# Altium footprint library FPC 10.PcbLib: 1 footprints
Each footprint in its own frame and in the unit in brackets; x right, y up, seen from the top. Pads: shape width x height; smd on the part's side, far side on the other; paste and mask are expansions set on the pad; w line width, h text height; cw(c..) or ccw(c..) is an arc to the next point about the centre after c.
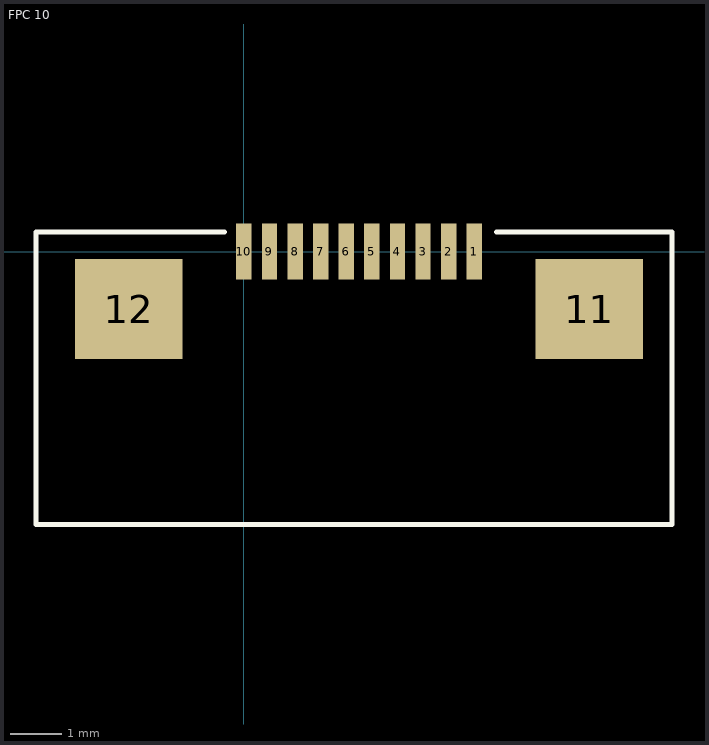
[diagram p0: the footprint, top view; thin cyan lines are the x and y axes]

## FPC 10 [mm] "0.5mm Pitch 10 Pin FPCFFC SMT Drawer Connector"
pads (12):
  rect 0.3x1.1 smd: 1(4.5,0) 2(4,0) 3(3.5,0) 4(3,0) 5(2.5,0) 6(2,0) 7(1.5,0) 8(1,0) 9(0.5,0) 10(0,0)
  rect 2.1x1.95 smd: 11(6.75,-1.125) 12(-2.25,-1.125)
Top Overlay:
  lines w0.1: -0.381,0.381 -0.508,0.381 -4.064,0.381 -4.064,-5.334 8.366,-5.334 8.366,0.381 4.937,0.381